# Altium footprint library TrashTrack_FOOTPRINT_LIB.PcbLib: 26 footprints (part 2 of 2)
Each footprint in its own frame and in the unit in brackets; x right, y up, seen from the top. Pads: shape width x height; smd on the part's side, far side on the other; paste and mask are expansions set on the pad; w line width, h text height; cw(c..) or ccw(c..) is an arc to the next point about the centre after c.
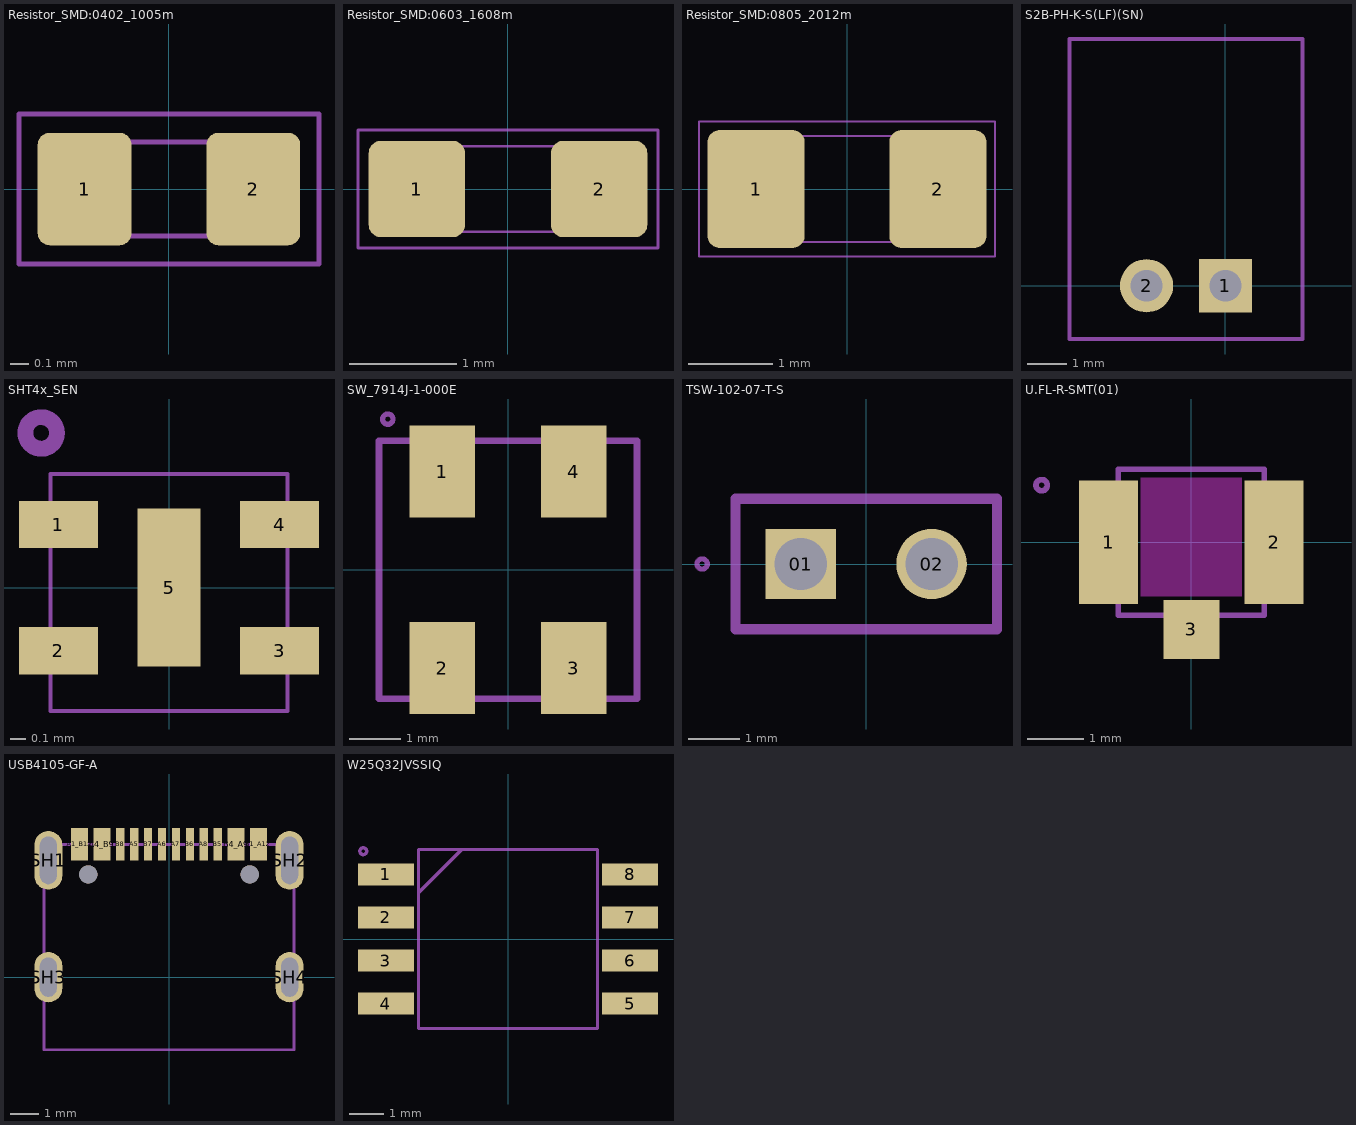
[diagram p1: the footprints below, top view; thin cyan lines are the x and y axes]

## Resistor_SMD:0402_1005m [mm] "Generic SMD resistor. Size 0402 (1005 metric)"
pads (2):
  rrect25% 0.5x0.6 smd mask+0.05: 1(-0.45,0) 2(0.45,0)
Top Assembly:
  lines w0.025: -0.5,-0.25 -0.5,0.251 0.501,0.251 0.501,-0.25 -0.5,-0.25
  text ".Designator" at -0.45,-0.1 h0.3
Mechanical 10:
  lines w0.025: -0.8,-0.4 -0.8,0.401 0.801,0.401 0.801,-0.4 -0.8,-0.4
3D body "R_0402_1005Metric.step": height 0.35, standoff 0, extent -0.5,-0.25 0.5,0.25

## Resistor_SMD:0603_1608m [mm] "Generic SMD resistor. Size 0603 (1608 metric)"
pads (2):
  rrect25% 0.9x0.9 smd mask+0.05: 1(-0.85,0) 2(0.85,0)
Top Assembly:
  lines w0.025: -0.8,-0.4 0.8,-0.4 0.8,0.4 -0.8,0.4 -0.8,-0.4
  text ".Designator" at -0.75,-0.25 h0.3
Mechanical 10:
  lines w0.025: -1.4,-0.55 1.4,-0.55 1.4,0.55 -1.4,0.55 -1.4,-0.55
3D body "R_0603_1608Metric.step": height 0.45, standoff 0, extent -0.8,-0.4 0.8,0.4

## Resistor_SMD:0805_2012m [mm] "Generic SMD resistor. Size 0805 (2012 metric)"
pads (2):
  rrect25% 1.15x1.4 smd mask+0.05: 1(-1.075,0) 2(1.075,0)
Top Assembly:
  lines w0.025: -1,-0.625 -1,0.625 1,0.625 1,-0.625 -1,-0.625
  text ".Designator" at -0.775,-0.125 h0.3
Mechanical 10:
  lines w0.025: -1.75,-0.8 -1.75,0.8 1.75,0.8 1.75,-0.8 -1.75,-0.8
3D body "R_0805_2012Metric.step": height 0.45, standoff 0, extent -1,-0.6 1,0.6

## S2B-PH-K-S(LF)(SN) [mm]
pads (2):
  rect 1.35x1.35 / inner round 1.35 / far side rect 1.35x1.35 hole 0.8: 1(0,0)
  round 1.35 hole 0.8: 2(-2,0)
Top Assembly:
  lines w0.1: -3.95,-1.35 1.95,-1.35 1.95,6.25 -3.95,6.25 -3.95,-1.35
  text ".Designator" at -3.456,2.68 h0.5
3D body "S2B-PH-K-S_LF__SN_.stp": height 4.8, standoff -3.4, extent -3.95,-1.35 1.95,6.25

## SHT4x_SEN [mm]
pads (5):
  rect 0.5x0.3 smd paste+0 mask+0.04: 1(-0.7,0.4) 2(-0.7,-0.4) 3(0.7,-0.4) 4(0.7,0.4)
  rect 0.4x1 smd paste+0 mask+0.04: 5(0,0)
Top Assembly:
  circle w0.1: c-0.81,0.98 r0.1
  lines w0.025: -0.75,-0.78 0.75,-0.78 0.75,0.72 -0.75,0.72 -0.75,-0.78
  text ".Designator" at -1.4,-0.16 h0.3
3D body "SHT40-AD1B-R2.STEP": height 0.54, standoff 0, extent -0.75,-0.782 0.75,0.72

## SW_7914J-1-000E [mm]
height 4.19
pads (4):
  rect 1.27x1.78 smd: 1(-1.27,1.905) 2(-1.27,-1.905) 3(1.27,-1.905) 4(1.27,1.905)
Top Assembly:
  circle w0.1: c-2.33,2.92 r0.1
  lines w0.127: -2.5,-2.5 -2.5,2.5 2.5,2.5 2.5,-2.5 -2.5,-2.5
  text ".Designator" at -2.5,-0.163 h0.5
3D body "7914J-1-032E.stp": height 3.99, standoff -0.2, extent -2.572,-2.55 2.572,2.55

## TSW-102-07-T-S [mm]
pads (2):
  rect 1.37x1.37 / inner round 1.37 / far side rect 1.37x1.37 hole 1.02: 01(-1.27,0)
  round 1.37 hole 1.02: 02(1.27,0)
Top Assembly:
  circle w0.1: c-3.19,0 r0.1
  circle w0.1: c-3.19,0 r0.1
  lines w0.1: -2.54,-1.27 -2.54,1.27 ; -2.54,-1.27 2.54,-1.27 ; -2.54,-1.27 -2.54,1.27 ; -2.54,1.27 2.54,1.27 ; -2.54,1.27 2.54,1.27 ; 2.54,-1.27 2.54,1.27 ; 2.54,-1.27 2.54,1.27
  lines w0.2: -2.54,-1.27 -2.54,1.27 2.54,1.27 2.54,-1.27 -2.54,-1.27
  text ".Designator" at -2.02,-0.207 h0.4
3D body "TSW-102-07-T-S.stp": height 9.27, standoff -2.92, extent -2.61,-1.27 2.597,1.27

## U.FL-R-SMT(01) [mm]
pads (3):
  rect 1.05x2.2 smd: 1(-1.475,0) 2(1.475,0)
  rect 1x1.05 smd: 3(0,-1.55)
Keep-Out Layer:
  region: 0.9,-0.963 -0.903,-0.963 -0.903,1.15 0.9,1.15
Top Assembly:
  circle w0.1: c-2.667,1.016 r0.1
  lines w0.1: -1.33,0.88 -1.33,0.87 -1.57,0.87 -1.57,-0.87 -1.3,-0.87 ; 1.34,-0.87 1.57,-0.87 1.57,0.87 1.38,0.87 ; -1.3,-0.87 -1.3,1.3 1.3,1.3 1.3,-1.3 -1.3,-1.3 -1.3,-0.87
  text ".Designator" at -1.474,-0.231 h0.3
Mechanical 14:
  lines w0.127: 1.34,-0.91 1.34,-0.9
3D body "step_temp.STEP": height 1.25, standoff 0, extent -1.5,-1.55 1.5,1.55

## USB4105-GF-A [mm]
height 3.31
pads (18):
  rect 0.6x1.15 smd mask+0.05: A1_B12(-3.2,4.755) A4_B9(-2.4,4.755) B1_A12(3.2,4.755) B4_A9(2.4,4.755)
  rect 0.3x1.15 smd mask+0.05: A5(-1.25,4.755) A6(-0.25,4.755) A7(0.25,4.755) A8(1.25,4.755) B5(1.75,4.755) B6(0.75,4.755) B7(-0.75,4.755) B8(-1.75,4.755)
  oval 1x2.1 hole 0.6 slot 1.7 at 90 deg: SH1(-4.32,4.18) SH2(4.32,4.18)
  oval 1x1.8 hole 0.6 slot 1.4 at 90 deg: SH3(-4.32,0) SH4(4.32,0)
  round 0.65 hole 0.65 unplated mask+0.05: ""(-2.89,3.68) ""(2.89,3.68)
Top Assembly:
  lines w0.1: -4.47,-2.6 -4.47,4.75 4.47,4.75 4.47,-2.6 -4.47,-2.6
  text ".Designator" at -1.855,1.547 h0.3
3D body "USB4105-GF-A.stp": height 3.26, standoff -0.95, extent -4.47,-2.54 4.47,5.16

## W25Q32JVSSIQ [mm]
pads (8):
  rect 1.65x0.65 smd: 1(-3.6,1.905) 2(-3.6,0.635) 3(-3.6,-0.635) 4(-3.6,-1.905) 5(3.6,-1.905) 6(3.6,-0.635) 7(3.6,0.635) 8(3.6,1.905)
Top Assembly:
  circle w0.1: c-4.27,2.59 r0.1
  lines w0.1: -2.64,1.37 -1.37,2.64 ; -2.64,-2.64 -2.64,2.64 2.64,2.64 2.64,-2.64 -2.64,-2.64
  text ".Designator" at -1.98,-0.247 h0.4
3D body "W25Q32JVSSIQ.stp": height 2.16, standoff 0, extent -3.93,-2.64 3.97,2.64